# Altium schematic symbol library EEEFKV101XAV.SchLib: 1 symbol
Pins are listed as number, name and electrical type; pins without a type are passive.

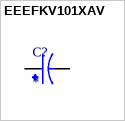
[diagram p0: symbol EEEFKV101XAV]

## EEEFKV101XAV
designator C?
MF: {'manufacturer': u'Panasonic'}; MP: EEEFKV101XAV; Price: None; Value: *; Availability: Unavailable; Package: None
footprint CAP_EEEFKV101XAV
pins: 1, 2